# Altium schematic symbol library GFZJ 整版.SCHLIB: 37 symbols
Pins are listed as number, name and electrical type; pins without a type are passive.

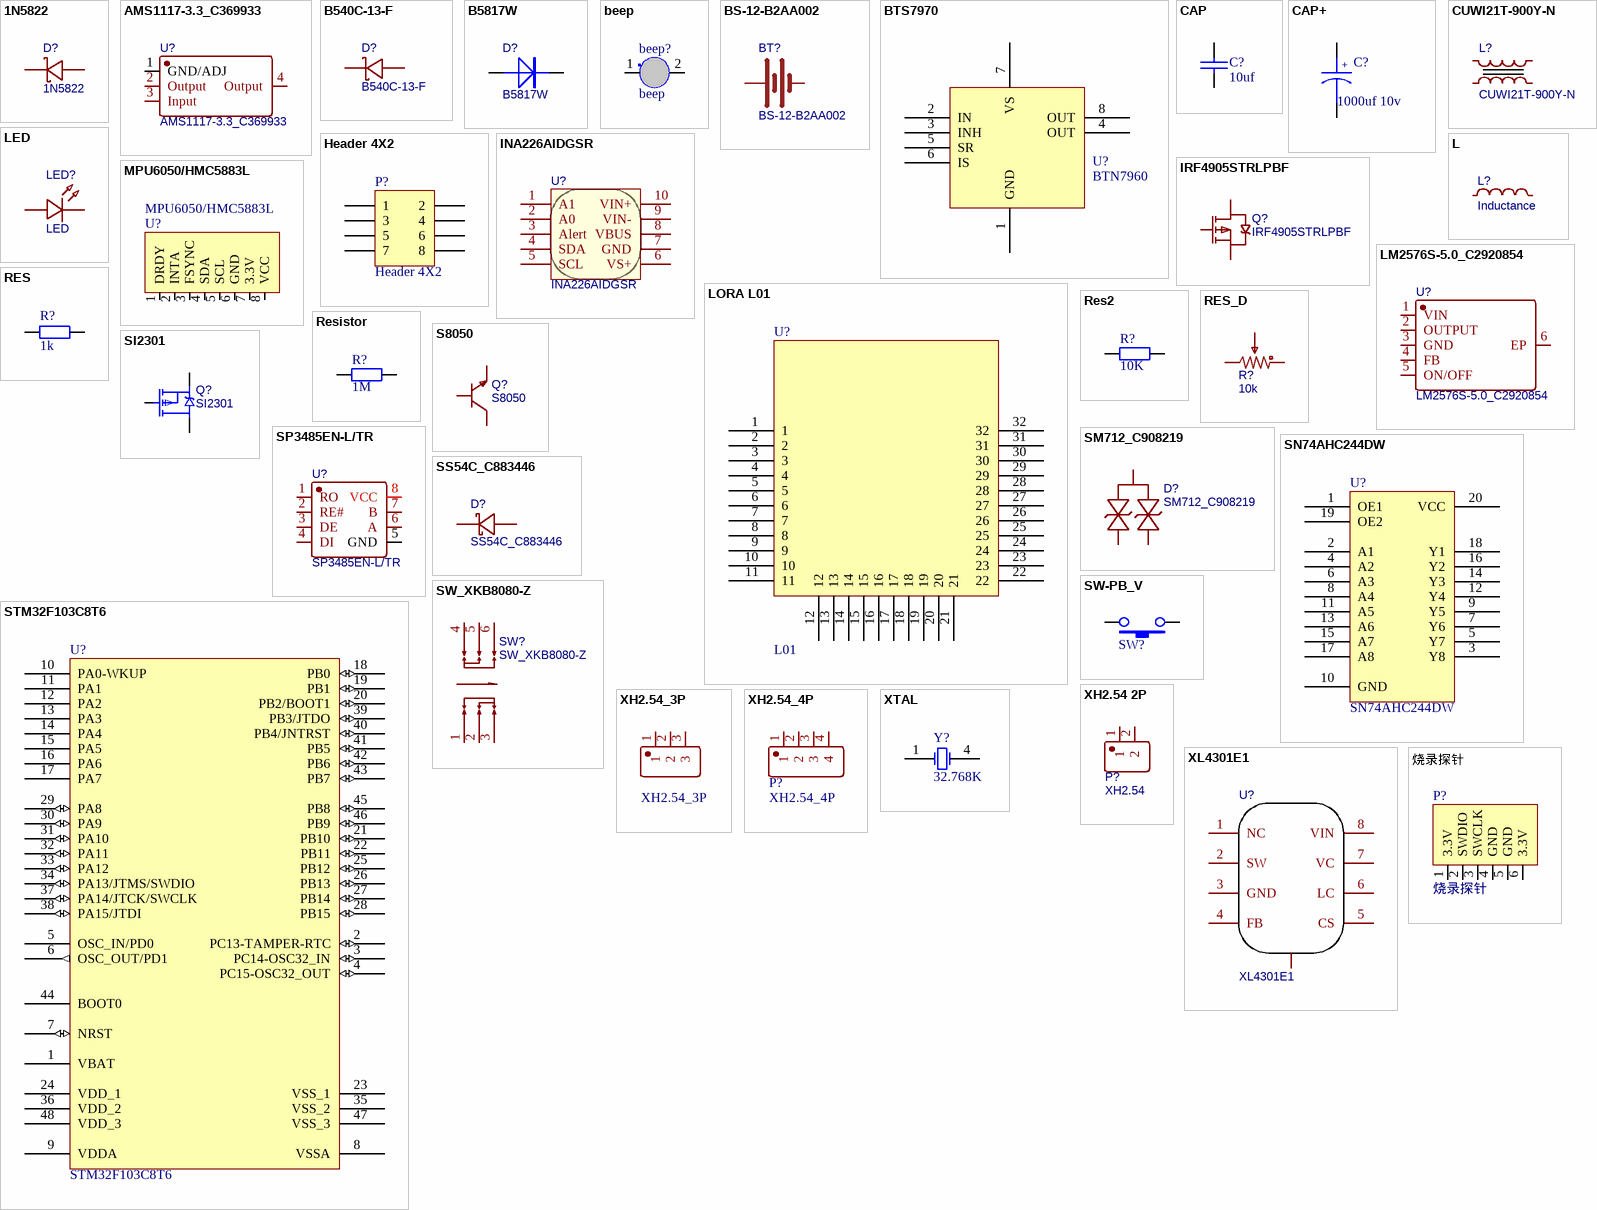
[diagram p0: symbols 1N5822 to 烧录探针]

## 1N5822
designator D?
BOM_Manufacturer: KEXIN; BOM_Manufacturer Part: 1N5819; Contributor: LCSC; BOM_Supplier: LCSC; BOM_Supplier Part: C437199; BOM_JLCPCB Part Class: Extended Part; spicePre: D; spiceSymbolName: 1N5819_C437199
footprint SMA_L4.4-W2.6-LS5.0-RD
pins: 1 C, 2 A

## AMS1117-3.3_C369933
designator U?
AMS1117-3.3; BOM_Manufacturer: KEXIN; Contributor: LCSC; BOM_Supplier: LCSC; BOM_Supplier Part: C369933; BOM_Manufacturer Part: AMS1117-3.3; BOM_JLCPCB Part Class: Extended Part; spicePre: U; spiceSymbolName: AMS1117-3.3_C369933
footprint SOT-223-4_L6.5-W3.5-P2.30-LS7.0-BR
pins: 1 GND/ADJ, 2 Output, 3 Input, 4 Output

## B540C-13-F
designator D?
BOM_Manufacturer: DIODES; BOM_Supplier: LCSC; BOM_Manufacturer Part: B540C-13-F; BOM_Supplier Part: C72264; BOM_JLCPCB Part Class: Extended Part; spicePre: D; spiceSymbolName: B540C-13-F
footprint SMC_L6.9-W5.9-LS7.9-RD
pins: 1 K, 2 A

## B5817W
designator D?
BOM_Manufacturer: CJ江苏长电; Contributor: mengruisheng; spicePre: D; spiceSymbolName: B5817W; BOM_Manufacturer Part: B5817W; BOM_Supplier: LCSC; BOM_Supplier Part: C8597
footprint SOD-123
pins: A, K

## beep
designator beep?
footprint beep
pins: 1, 2

## BS-12-B2AA002
designator BT?
BOM_Manufacturer: MYOUNG(美阳); Contributor: LCSC; BOM_Supplier: LCSC; BOM_Supplier Part: C964721; BOM_Manufacturer Part: BS-12-B2AA002; BOM_JLCPCB Part Class: Extended Part; spicePre: B; spiceSymbolName: BS-12-B2AA002
footprint BAT-SMD_BS-12-B2AA002
footprint CR1220
pins: 1 +, 2 -

## BTS7970
designator U?, comment BTN7960
footprint BTN7960
pins: 1 GND, 2 IN, 3 INH, 4 OUT, 5 SR, 6 IS, 7 VS, 8 OUT

## CAP
designator C?, comment value 10uf  (hidden comment: Capacitor)
footprint 0805C
footprint 0603C
footprint 1206C
pins: 1, 2

## CAP+
designator C?, comment value 1000uf 10v  (hidden comment: Capacitor)
footprint RB.1/.2
footprint RB.2/.4
footprint RB.3/.6
footprint RB.4/.8
footprint RB.1/.3
footprint CAP-TH_BD8.0-P3.50-D0.6-FD (8*12 (100uf 50v) (1000uf 10v))
footprint CAP-TH_BD5.0-P2.00-D0.8-FD
pins: 1, 2
text: +

## CUWI21T-900Y-N
designator L?
BOM_Manufacturer: chilisin(奇力新); Contributor: LCSC; BOM_Supplier: LCSC; BOM_Supplier Part: C280477; BOM_Manufacturer Part: CUWI21T-900Y-N; BOM_JLCPCB Part Class: Extended Part; spicePre: L; spiceSymbolName: CUWI21T-900Y-N
footprint FILTER-SMD_4P-L2.1-W1.3-BL
pins: 1, 2, 3, 4

## Header 4X2
designator P?
Header, 4-Pin, Dual row; LatestRevisionDate: 17-Jul-2002; LatestRevisionNote: Re-released for DXP Platform.; Publisher: Altium Limited
footprint HDR2X4 (Connector; Header; 4x2 Position)
signal-integrity model Connector
pins: 1, 2, 3, 4, 5, 6, 7, 8

## INA226AIDGSR
designator U?
BOM_Manufacturer: TI; BOM_Supplier: LCSC; BOM_Manufacturer Part: INA226AIDGSR; BOM_Supplier Part: C49851; BOM_JLCPCB Part Class: Extended Part; spicePre: U; spiceSymbolName: INA226AIDGSR
footprint INA226
pins: 1 A1, 2 A0, 3 Alert, 4 SDA, 5 SCL, 6 VS+, 7 GND, 8 VBUS, 9 VIN-, 10 VIN+

## IRF4905STRLPBF
designator Q?
BOM_Manufacturer: IR; BOM_Supplier: LCSC; BOM_Manufacturer Part: IRF4905STRLPBF; BOM_Supplier Part: C2620; BOM_JLCPCB Part Class: Extended Part; spicePre: Q; spiceSymbolName: IRF4905STRLPBF
footprint D2PAK_L9.1-W10.0-P2.54-LS15.3-TL
pins: 1 G, 3 S, 4 D

## L
designator L?, comment Inductance
BOM_Manufacturer: FH; BOM_Manufacturer Part: VLU0810-101K; BOM_Supplier: LCSC; nameAlias: Inductance; BOM_Supplier Part: C72630; BOM_JLCPCB Part Class: Extended Part; spicePre: L; spiceSymbolName: VLU0810-101K
footprint IND-TH_BD10.0-P5.00-D0.7
pins: 1, 2

## LED
designator LED?
BOM_Manufacturer: EVERLIGHT(台湾亿光); BOM_Manufacturer Part: 19-217/R6C-AL1M2VY/3T; Contributor: LCEDA_01; BOM_Supplier Part: C72044; BOM_Supplier: LCSC; spicePre: L; spiceSymbolName: LED-0603_R
footprint LED0603_RED
footprint LED-TH_BD4.3-P2.54 (直插LED)
pins: 1, 2

## LM2576S-5.0_C2920854
designator U?
LM2576S-5.0; BOM_Manufacturer: minos(迈诺斯); Contributor: LCSC; BOM_Supplier: LCSC; BOM_Supplier Part: C2920854; BOM_Manufacturer Part: LM2576S-5.0; BOM_JLCPCB Part Class: Extended Part; spicePre: U; spiceSymbolName: LM2576S-5.0_C2920854
footprint TO-263-5_L10.2-W8.6-P1.70-LS14.4-TL
pins: 1 VIN, 2 OUTPUT, 3 GND, 4 FB, 5 ON/OFF, 6 EP

## LORA L01
designator U?, comment L01
LORA模组
footprint LORA L01 (LORA L模组)
pins: 1, 2, 3, 4, 5, 6, 7, 8, 9, 10, 11, 12, 13, 14, 15, 16, 17, 18, 19, 20, 21, 22, 23, 24, 25, 26, 27, 28, 29, 30, 31, 32

## MPU6050/HMC5883L
designator U?
footprint MPU6050/HMC5883
pins: 1 DRDY, 2 INTA, 3 FSYNC, 4 SDA, 5 SCL, 6 GND, 7 3.3V, 8 VCC

## RES
designator R?, comment value 1k  (hidden comment: Resistor)
Resistor SMD - IEC symbol version; LatestRevisionDate: 27-Jul-20  -  Semtech
footprint 0603R
footprint 0805R
footprint 1206R
footprint 3216R
pins: 1, 2

## Res2
designator R?, comment 10K
Resistor; Published: 8-Jun-2000; LatestRevisionDate: 17-Jul-2002; LatestRevisionNote: Re-released for DXP Platform.; Publisher: Altium Limited
simulation model RESISTOR (Resistor)
signal-integrity model Res
footprint 0603R
pins: 1, 2

## RES_D
designator R?, comment 10k
电位器; BOM_Manufacturer: Chengdu Guosheng Tech; BOM_Manufacturer Part: 3362P-1-102; Resistance(Ohms): 1K; nameAlias: Resistance; Contributor: LCSC; BOM_Supplier: LCSC; BOM_Supplier Part: C118947; Resistance (Ohms): 1K; BOM_JLCPCB Part Class: Extended Part; spicePre: R; spiceSymbolName: 3362P-1-102
footprint 电位器
pins: 1, 2, 3

## Resistor
designator R?  value 1M  (hidden comment: Resistor)
Resistor SMD - IEC symbol version; LatestRevisionDate: 27-Jul-20  -  Semtech
footprint 0603R
footprint 0805R
footprint 1206R
footprint 3216R
pins: 1, 2

## S8050
designator Q?
BOM_Manufacturer: BORN伯恩半导体; Contributor: mengruisheng; BOM_Supplier Part: C266592; BOM_Supplier: LCSC; spicePre: Q; spiceSymbolName: NPN; BOM_Manufacturer Part: S8050
footprint SOT-23
pins: 1 B, 2 E, 3 C

## SI2301
designator Q?
BOM_Manufacturer: Hottech(合科泰); Contributor: mengruisheng; spicePre: Q; spiceSymbolName: PMOS; BOM_Manufacturer Part: SI2301; BOM_Supplier: LCSC; BOM_Supplier Part: C181086
footprint SOT-23
pins: 1 G, 2 S, 3 D

## SM712_C908219
designator D?
BOM_Manufacturer: FUXINSEMI; BOM_Manufacturer Part: SM712; Contributor: LCSC; BOM_Supplier: LCSC; BOM_Supplier Part: C908219; BOM_JLCPCB Part Class: Extended Part; spicePre: D; spiceSymbolName: SM712_C908219
footprint SOT-23-3_L2.9-W1.3-P1.90-LS2.4-BR
pins: 1, 2, 3

## SN74AHC244DW
designator U?
footprint sn74ahc244dw
pins: 1 OE1, 2 A1, 3 Y8, 4 A2, 5 Y7, 6 A3, 7 Y6, 8 A4, 9 Y5, 10 GND, 11 A5, 12 Y4, 13 A6, 14 Y3, 15 A7, 16 Y2, 17 A8, 18 Y1, 19 OE2, 20 VCC

## SP3485EN-L/TR
designator U?
BOM_Manufacturer: EXAR; BOM_Supplier: LCSC; BOM_Manufacturer Part: SP3485EN-L/TR; BOM_Supplier Part: C8963; BOM_JLCPCB Part Class: Basic Part; spicePre: U; spiceSymbolName: SP3485EN-L/TR
footprint SOIC-8_L5.0-W4.0-P1.27-LS6.0-BL
pins: 1 RO, 2 RE#, 3 DE, 4 DI, 5 GND, 6 A, 7 B, 8 VCC

## SS54C_C883446
designator D?
BOM_Manufacturer: DOWO; BOM_Manufacturer Part: SS54C; Contributor: LCSC; BOM_Supplier: LCSC; BOM_Supplier Part: C883446; BOM_JLCPCB Part Class: Extended Part; spicePre: D; spiceSymbolName: SS54C_C883446
footprint SMC_L6.9-W5.9-LS7.9-RD
pins: 1 C, 2 A

## STM32F103C8T6
designator U?
Flaah:64/RAM:20/IO:36; BOM名称: 32位STM单片机; 版权归属: 源创客; 学习资源: www.ooocke.com
footprint LQFP48 7X7_N (48脚，体宽7x7mm，脚距0.5mm)
footprint LQFP48 7X7_M (48脚，体宽7x7mm，脚距0.5mm)
footprint LQFP48 7X7_L (48脚，体宽7x7mm，脚距0.5mm)
footprint LQFP48 7X7_M (48脚，体宽7x7mm，脚距0.5mm      淘宝ID:黄晶宝石)
pins: 1 VBAT (power), 2 PC13-TAMPER-RTC (io), 3 PC14-OSC32_IN (io), 4 PC15-OSC32_OUT (io), 5 OSC_IN/PD0, 6 OSC_OUT/PD1 (out), 7 NRST (io), 8 VSSA (power), 9 VDDA (power), 10 PA0-WKUP, 11 PA1, 12 PA2, 13 PA3, 14 PA4, 15 PA5, 16 PA6, 17 PA7, 18 PB0 (io), 19 PB1 (io), 20 PB2/BOOT1 (io), 21 PB10 (io), 22 PB11 (io), 23 VSS_1 (power), 24 VDD_1 (power), 25 PB12 (io), 26 PB13 (io), 27 PB14 (io), 28 PB15 (io), 29 PA8 (io), 30 PA9 (io), 31 PA10 (io), 32 PA11 (io), 33 PA12 (io), 34 PA13/JTMS/SWDIO (io), 35 VSS_2 (power), 36 VDD_2 (power), 37 PA14/JTCK/SWCLK (io), 38 PA15/JTDI (io), 39 PB3/JTDO (io), 40 PB4/JNTRST (io), 41 PB5 (io), 42 PB6 (io), 43 PB7 (io), 44 BOOT0, 45 PB8 (io), 46 PB9 (io), 47 VSS_3 (power), 48 VDD_3 (power)

## SW-PB_V
designator SW?  (value not drawn)
SWITCH
footprint 复位按键 (3*6*2.5mm)
pins: 1, 2

## SW_XKB8080-Z
designator SW?
8*8自锁/无锁按钮开关 自锁 按下2-3 4-5松开1-3 4-6; BOM_Manufacturer: XKB Enterprise; Contributor: LCSC; BOM_Supplier: LCSC; BOM_Supplier Part: C318860; BOM_Manufacturer Part: XKB8080-Z; BOM_JLCPCB Part Class: Extended Part; spicePre: S; spiceSymbolName: XKB8080-Z
footprint SW-TH_6P-L8.0-W8.0-P2.50
pins: 1, 2, 3, 4, 5, 6

## XH2.54 2P
designator P?, comment XH2.54
BOM_Manufacturer: BOOMELE; BOM_Manufacturer Part: XH2.54Acupuncture needles 16pin; BOM_Supplier: LCSC; BOM_Supplier Part: C24983; BOM_JLCPCB Part Class: Extended Part; spicePre: C; spiceSymbolName: XH-16AW
footprint XH2.54_2P (XH2.54 弯针)
pins: 1, 2

## XH2.54_3P
designator *?
footprint XH2.54_3P (XH2.54)
pins: 1, 2, 3

## XH2.54_4P
designator P?
footprint XH2.54_4P (XH2.54)
footprint 5.08 LINKER 1*4 (5.08MM间距接线端子)
pins: 1, 2, 3, 4

## XL4301E1
designator U?
BOM_Manufacturer: XLSEMI; BOM_Supplier: LCSC; BOM_Manufacturer Part: XL4301E1; BOM_Supplier Part: C73024; BOM_JLCPCB Part Class: Extended Part; spicePre: U; spiceSymbolName: XL4301E1
footprint SOIC-8_L5.0-W4.0-P1.27-LS6.0-BL-EP2.0
pins: 1 NC, 2 SW, 3 GND, 4 FB, 5 CS, 6 LC, 7 VC, 8 VIN, 9

## XTAL
designator Y?, comment 32.768K
Crystal Oscillator; Published: 8-Jun-2000; LatestRevisionDate: 17-Jul-2002; LatestRevisionNote: Re-released for DXP Platform.; Publisher: Altium Limited
simulation model XTAL (Spice Subcircuit)
footprint MC-306
pins: 1 OSC1, 4 OSC2

## 烧录探针
designator P?
footprint 烧录探针 (Connector; Header; 10x2 Position)
pins: 1 3.3V, 2 SWDIO, 3 SWCLK, 4 GND, 5 GND, 6 3.3V